# EAGLE library part R-4PAK (library QuantumOptics)
Quad Resistor Pack
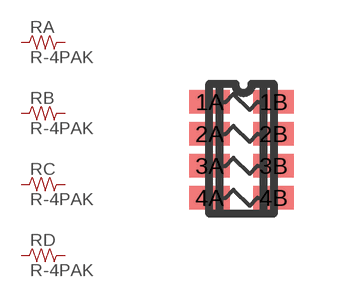
[diagram p53: symbol with the pads of PANASONIC_EXB-V8V(QUAD-R-PACK); footprint PANASONIC_EXB-V8V(QUAD-R-PACK)]

Designator prefix R; gates A=R-H B=R-H C=R-H D=R-H

## R-4PAK-EXB-8V8  [PANASONIC_EXB-V8V(QUAD-R-PACK)]
1A  A:P$1  pas
1B  A:P$2  pas
2A  B:P$1  pas
2B  B:P$2  pas
3A  C:P$1  pas
3B  C:P$2  pas
4A  D:P$1  pas
4B  D:P$2  pas

## Footprint PANASONIC_EXB-V8V(QUAD-R-PACK) (pad centres in mm)
EXB-V8V-vvvJV, Panasonic quad resistor pack, each R is 0603, 5%, where value "vvv" is two significant digits and decade multiplier. http://www.panasonic.com/industrial/components/pdf/aoc0000ce1.pdf
smd 1 x 0.59: 1A -0.8,1.2; 1B 0.8,1.2; 2A -0.8,0.4; 2B 0.8,0.4; 3A -0.8,-0.4; 3B 0.8,-0.4; 4A -0.8,-1.2; 4B 0.8,-1.2